# EAGLE library part OSRAM_6PLCC_RGBLED (library orkwerx)
Osram LRTB-GFTM 6PLCC diffused RGB LED by Osram. Digi-Key 475-2900-1-ND
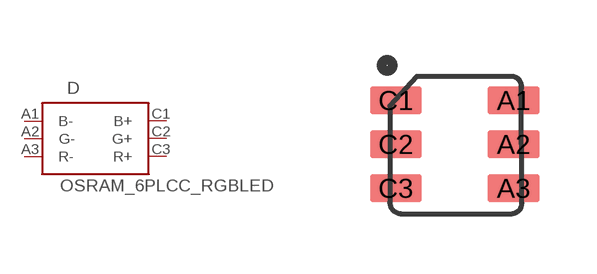
[diagram p1: symbol with the pads of LRTB-GFTM; footprint LRTB-GFTM]

Designator prefix D

## OSRAM_6PLCC_RGBLED  [LRTB-GFTM]
A1  B-  pwr
A2  G-  pwr
A3  R-  pwr
C1  B+  pwr
C2  G+  pwr
C3  R+  pwr

## Footprint LRTB-GFTM (pad centres in mm)
Package for OSRAM LRTB-GFTM 6LPCC RGB LED.
smd 1.3 x 0.7: A1 1.75,0.9; A2 1.75,-0.2; A3 1.75,-1.3; C1 -1.2,0.9; C2 -1.2,-0.2; C3 -1.2,-1.3